# Altium footprint library BMS.PcbLib: 9 footprints
Each footprint in its own frame and in the unit in brackets; x right, y up, seen from the top. Pads: shape width x height; smd on the part's side, far side on the other; paste and mask are expansions set on the pad; w line width, h text height; cw(c..) or ccw(c..) is an arc to the next point about the centre after c.
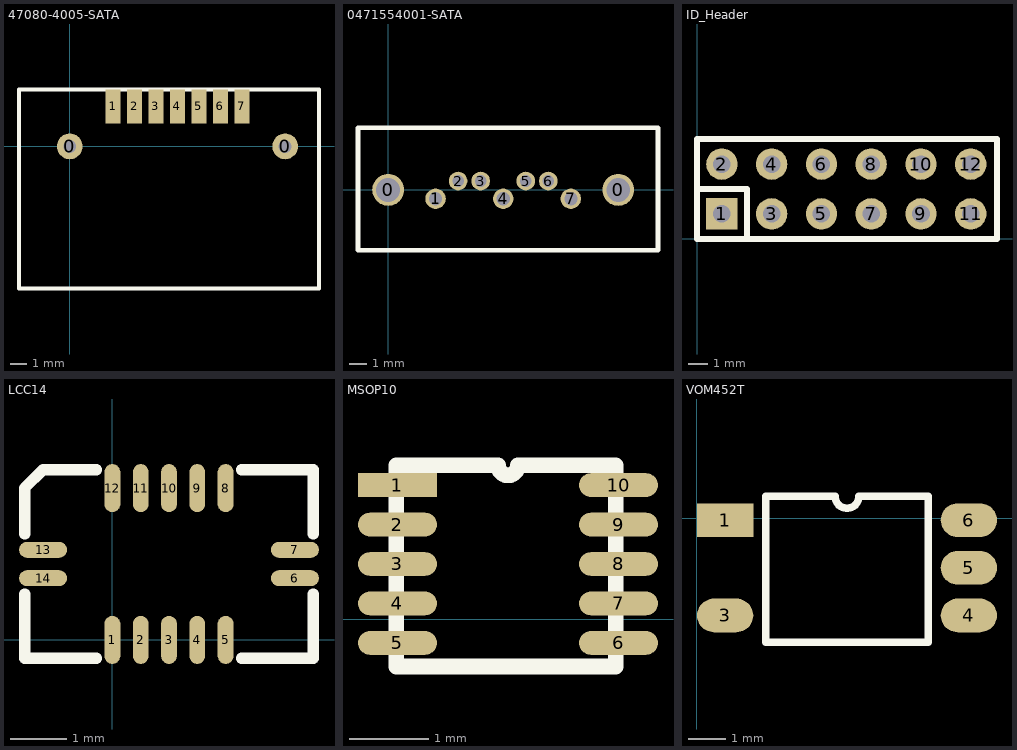
[diagram p0: the footprints below, top view; thin cyan lines are the x and y axes]

## 47080-4005-SATA [mm]
pads (9):
  round 1.524 hole 0.762: 0(0,0) 0(12.74,0)
  rect 0.9x2 smd: 1(2.56,2.36) 2(3.83,2.36) 3(5.1,2.36) 4(6.37,2.36) 5(7.64,2.36) 6(8.91,2.36) 7(10.18,2.36)
Top Overlay:
  lines w0.254: -3,-8.4 14.74,-8.4 14.74,3.36 -3,3.36 -3,-8.4

## 0471554001-SATA [mm]
pads (9):
  round 1.8 hole 1.35: 0(0,0) 0(12.96,0)
  round 1.15 hole 0.74: 1(2.67,-0.5) 4(6.48,-0.5) 7(10.29,-0.5)
  round 1.05 hole 0.65: 2(3.94,0.5) 3(5.21,0.5) 5(7.75,0.5) 6(9.02,0.5)
Top Overlay:
  lines w0.254: -1.7,-3.4 15.2,-3.4 15.2,3.5 -1.7,3.5 -1.7,-3.4

## ID_Header [mm]
pads (12):
  rect 1.6x1.6 hole 0.9: 1(1.27,1.27)
  round 1.6 hole 0.9: 2(1.27,3.81) 3(3.81,1.27) 4(3.81,3.81) 5(6.35,1.27) 6(6.35,3.81) 7(8.89,1.27) 8(8.89,3.81) 9(11.43,1.27) 10(11.43,3.81) 11(13.97,1.27) 12(13.97,3.81)
Top Overlay:
  lines w0.305: 0,2.54 2.54,2.54 2.54,0 ; 15.3,0 15.3,5.08 ; 15.31,0 0,0 0,5.08 15.31,5.08

## LCC14 [mm]
pads (14):
  oval 0.28x0.85 smd: 1(0,0) 2(0.5,0) 3(1,0) 4(1.5,0) 5(2,0) 8(2,2.68) 9(1.5,2.68) 10(1,2.68) 11(0.5,2.68) 12(0,2.68)
  oval 0.85x0.28 smd: 6(3.225,1.09) 7(3.225,1.59) 13(-1.225,1.59) 14(-1.225,1.09)
Top Overlay:
  lines w0.2: -1.55,0.81 -1.55,-0.325 -0.28,-0.325 ; -1.55,1.87 -1.55,2.68 -1.225,3.005 -0.28,3.005 ; 2.28,-0.325 3.55,-0.325 3.55,0.81 ; 2.28,3.005 3.55,3.005 3.55,1.87

## MSOP10 [mm]
pads (10):
  rect 1x0.3 smd: 1(2.265,1.7)
  oval 1x0.3 smd: 2(2.265,1.2) 3(2.265,0.7) 4(2.265,0.2) 5(2.265,-0.3) 6(5.065,-0.3) 7(5.065,0.2) 8(5.065,0.7) 9(5.065,1.2) 10(5.065,1.7)
Top Overlay:
  lines w0.2: 2.25,-0.6 2.25,1.95 3.54,1.95 ccw(c3.665,1.95) 3.79,1.95 5.03,1.95 5.03,-0.6 2.25,-0.6

## PCBComponent_1 [mm]

## PCBComponent_1 - duplicate [mm]

## QFN10 [mm]
height 1

## VOM452T [mm]
pads (5):
  rect 1.5x0.9 smd: 1(0.75,-0.05)
  oval 1.5x0.9 smd: 3(0.75,-2.59) 4(7.25,-2.59) 5(7.25,-1.32) 6(7.25,-0.05)
Top Overlay:
  lines w0.2: 1.835,-3.3 1.835,0.585 3.682,0.585 ccw(c4,0.585) 4.317,0.585 6.165,0.585 6.165,-3.3 1.835,-3.3